# EAGLE library part SD-CARD (library Oles komponentbibliotek)
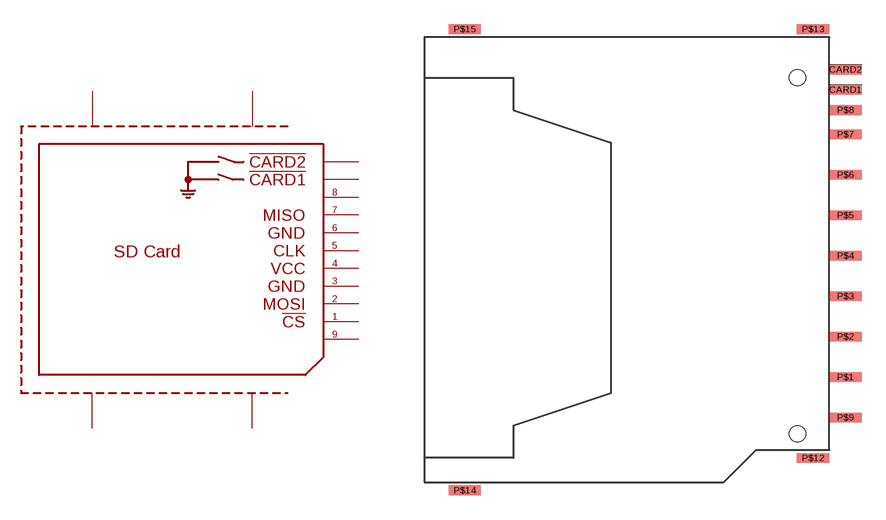
[diagram p41: symbol with the pads of SD-CARD; footprint SD-CARD]

Designator prefix -

## SD-CARD  [SD-CARD]
!CARD1  !CARD1  pas
!CARD2  !CARD2  pas
P$1  !CS  in
P$2  MOSI  in
P$3  GND1  pwr
P$4  VCC  pwr
P$5  CLK  in
P$6  GND2  pwr
P$7  MISO  out
P$8  8  nc
P$9  9  nc
P$12  P$4  pwr
P$13  P$3  pwr
P$14  P$2  pwr
P$15  P$1  pwr

## Footprint SD-CARD (pad centres in mm)
smd 2 x 0.6: !CARD1 13,8.25; !CARD2 13,9.5; P$1 13,-9.5; P$2 13,-7; P$3 13,-4.5; P$4 13,-2; P$5 13,0.5; P$6 13,3; P$7 13,5.5; P$8 13,7; P$9 13,-12; P$12 11,-14.5; P$13 11,12; P$14 -10.5,-16.5; P$15 -10.5,12
hole 1 at 10.04,-13
hole 1 at 10.04,9